# Altium schematic symbol library Discrete_Resistor.SchLib: 154 symbols
Pins are listed as number, name and electrical type; pins without a type are passive.

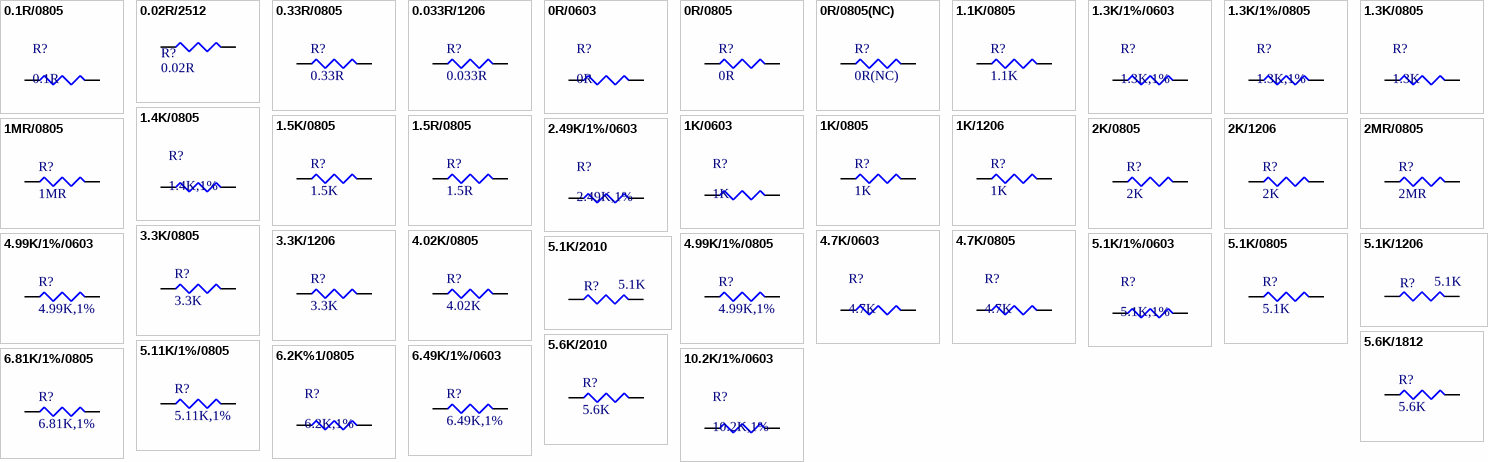
[diagram p0: symbols 0.1R/0805 to 10.2K/1%/0603]

## 0.1R/0805
designator R?, comment 0.1R
普通电阻, 0.1R, 5%, 1/4w, 0805; Manufacturer: ROHM; Ordering NO.: 0.1R; Name: 普通电阻
footprint R0805 (Chip Resistor; Body 80x50mil (2.0 x 1.3 mm))
pins: 1, 2

## 0.02R/2512
designator R?, comment 0.02R
普通电阻, 0.02R, 5%,  1W, 2512; Manufacturer: RHOM; Name: 普通电阻; Ordering NO.: 0.02R
footprint R2512
pins: 1, 2

## 0.33R/0805
designator R?, comment 0.33R
普通电阻, 0.33R, 5%, 1/8W, 0805; Manufacturer: ROHM; Name: 普通电阻; Ordering NO.: 0.33R
footprint R0805 (Chip Resistor; Body 80x50mil (2.0 x 1.3 mm))
pins: 1, 2

## 0.033R/1206
designator R?, comment 0.033R
普通电阻, 0.033R, 5%, 1/4W, 1206; Manufacturer: ROHM; Name: 普通电阻; Ordering NO.: 0.033R
footprint R1206
pins: 1, 2

## 0R/0603
designator R?, comment 0R
普通电阻, 0R, 5%, 1/4w, 0603; Manufacturer: ROHM; Ordering NO.: 0R/0603; Name: 普通电阻
footprint R0603 (Chip Resistor, Body 60x30mil (1.6x0.8mm))
pins: 1, 2

## 0R/0805
designator R?, comment 0R
普通电阻, 0R, 5%, 1/8W, 0805; Manufacturer: ROHM; Name: 普通电阻; Ordering NO.: 0R
footprint R0805 (Chip Resistor; Body 80x50mil (2.0 x 1.3 mm))
pins: 1, 2

## 0R/0805(NC)
designator R?, comment 0R(NC)
普通电阻, 0R, 5%, 1/8W, 0805; Manufacturer: ROHM; Name: 普通电阻; Ordering NO.: 0R(NC)
footprint R0805 (Chip Resistor; Body 80x50mil (2.0 x 1.3 mm))
pins: 1, 2

## 1.1K/0805
designator R?, comment 1.1K
普通电阻, 1.1K, 5%, 1/8W, 0805; Manufacturer: ROHM; Name: 普通电阻; Ordering NO.: 1.1K
footprint R0805 (Chip Resistor; Body 80x50mil (2.0 x 1.3 mm))
pins: 1, 2

## 1.3K/1%/0603
designator R?, comment 1.3K,1%
高精度电阻, 1.3K, 1%, 1/4w, 0603; Manufacturer: ROHM; Ordering NO.: 1.3K,1%; Name: 高精度电阻
footprint R0603 (Chip Resistor, Body 60x30mil (1.6x0.8mm))
pins: 1, 2

## 1.3K/1%/0805
designator R?, comment 1.3K,1%
高精度电阻, 1.3K, 1%, 1/4w, 0805; Manufacturer: ROHM; Ordering NO.: 1.3K,1%; Name: 高精度电阻
footprint R0805 (Chip Resistor; Body 80x50mil (2.0 x 1.3 mm))
pins: 1, 2

## 1.3K/0805
designator R?, comment 1.3K
普通电阻, 1.3K, 5%, 1/4w, 0805; Manufacturer: ROHM; Ordering NO.: 1.3K; Name: 普通电阻
footprint R0805 (Chip Resistor; Body 80x50mil (2.0 x 1.3 mm))
pins: 1, 2

## 1.4K/0805
designator R?, comment 1.4K,1%
高精度电阻, 1.4K, 1%, 1/4w, 0805; Manufacturer: ROHM; 物料参考价格: 0.01; 物料型号说明: 贴片电阻0805,1.4K%1/0805/1_4w; 物料替代型号: 村田; Ordering NO.: 1.4K,1%; Name: 高精度电阻
footprint R0805 (Chip Resistor; Body 80x50mil (2.0 x 1.3 mm))
pins: 1, 2

## 1.5K/0805
designator R?, comment 1.5K
普通电阻, 1.5K,5%, 1/8W, 0805; Manufacturer: ROHM; Name: 普通电阻; Ordering NO.: 1.5K
footprint R0805 (Chip Resistor; Body 80x50mil (2.0 x 1.3 mm))
pins: 1, 2

## 1.5R/0805
designator R?, comment 1.5R
普通电阻, 1.5R, 5%, 1/8W, 0805; Manufacturer: ROHM; Name: 普通电阻; Ordering NO.: 1.5R
footprint R0805 (Chip Resistor; Body 2.0 x 1.3 mm (LxW typ))
pins: 1, 2

## 1K/0603
designator R?, comment 1K
普通电阻, 1K, 5%, 1/4w, 0603; Manufacturer: ROHM; Ordering NO.: 1K; Name: 普通电阻
footprint R0603 (Chip Resistor, Body 60x30mil (1.6x0.8mm))
pins: 1, 2

## 1K/0805
designator R?, comment 1K
普通电阻, 1K, 5%, 1/8W, 0805; Manufacturer: ROHM; Name: 普通电阻; Ordering NO.: 1K
footprint R0805 (Chip Resistor; Body 80x50mil (2.0 x 1.3 mm))
pins: 1, 2

## 1K/1206
designator R?, comment 1K
普通电阻, 1K, 5%, 1/8W, 1206; Manufacturer: ROHM; Name: 普通电阻; Ordering NO.: 1K
footprint R1206 (Chip Resistor; Body 120x60mil (3.2 x 1.6 mm ))
pins: 1, 2

## 1MR/0805
designator R?, comment 1MR
普通电阻, 1MR, 5%, 1/8W, 0805; Manufacturer: ROHM; Name: 普通电阻; Ordering NO.: 1MR
footprint R0805 (Chip Resistor; Body 80x50mil (2.0 x 1.3 mm))
pins: 1, 2

## 2.49K/1%/0603
designator R?, comment 2.49K,1%
高精度电阻, 2.49K, 1%, 1/4w, 0603; Manufacturer: ROHM; 物料参考价格: 0.03; 物料型号说明: 贴片电阻0603,2.49K%1/0603/1_4w; 物料替代型号: 村田; Ordering NO.: 2.49K,1%; Name: 高精度电阻
footprint R0603 (Chip Resistor, Body 60x30mil (1.6x0.8mm))
pins: 1, 2

## 2K/0805
designator R?, comment 2K
普通电阻, 2K, 5%, 1/8W, 0805; Manufacturer: ROHM; Name: 普通电阻; Ordering NO.: 2K
footprint R0805 (Chip Resistor; Body 80x50mil (2.0 x 1.3 mm))
pins: 1, 2

## 2K/1206
designator R?, comment 2K
普通电阻, 2K, 5%, 1/4W, 1206; Manufacturer: ROHM; Name: 普通电阻; Ordering NO.: 2K
footprint R1206 (Chip Resistor; Body 120x60mil (3.2 x 1.6 mm ))
pins: 1, 2

## 2MR/0805
designator R?, comment 2MR
普通电阻, 2MR, 5%, 1/8W, 0805; Manufacturer: ROHM; Name: 普通电阻; Ordering NO.: 2MR
footprint R0805 (Chip Resistor; Body 80x50mil (2.0 x 1.3 mm))
pins: 1, 2

## 3.3K/0805
designator R?, comment 3.3K
普通电阻, 3.3K, 5%, 1/8W, 0805; Manufacturer: ROHM; Name: 普通电阻; Ordering NO.: 3.3K
footprint R0805 (Chip Resistor; Body 80x50mil (2.0 x 1.3 mm))
pins: 1, 2

## 3.3K/1206
designator R?, comment 3.3K
普通电阻, 3.3K, 5%, 1/8W, 1206; Manufacturer: ROHM; Name: 普通电阻; Ordering NO.: 3.3K
footprint R1206 (Chip Resistor; Body 120x60mil (3.2 x 1.6 mm ))
pins: 1, 2

## 4.02K/0805
designator R?, comment 4.02K
普通电阻, 4.02K, 5%, 1/8W, 0805; Manufacturer: ROHM; Name: 普通电阻; Ordering NO.: 4.02K
footprint R0805 (Chip Resistor; Body 80x50mil (2.0 x 1.3 mm))
pins: 1, 2

## 4.7K/0603
designator R?, comment 4.7K
普通电阻, 4.7K, 5%, 1/4w, 0603; Manufacturer: ROHM; 物料参考价格: 0.01; 物料型号说明: 贴片电阻0603,4.7K%5/1_4w; 物料替代型号: 村田; Ordering NO.: 4.7K; Name: 普通电阻
footprint R0603 (Chip Resistor, Body 60x30mil (1.6x0.8mm))
pins: 1, 2

## 4.7K/0805
designator R?, comment 4.7K
普通电阻, 4.7K, 5%, 1/4w, 0805; Manufacturer: ROHM; 物料参考价格: 0.01; 物料型号说明: 贴片电阻0805,4.7K%5/1_4w; 物料替代型号: 村田; Ordering NO.: 4.7K; Name: 普通电阻
footprint R0805 (Chip Resistor; Body 80x50mil (2.0 x 1.3 mm))
pins: 1, 2

## 4.99K/1%/0603
designator R?, comment 4.99K,1%
高精度电阻, 4.99K, 1%, 1/8W, 0603; Manufacturer: ROHM; Name: 高精度电阻; Ordering NO.: 4.99K,1%
footprint R0603 (Chip Resistor, Body 60x30mil (1.6x0.8mm))
pins: 1, 2

## 4.99K/1%/0805
designator R?, comment 4.99K,1%
高精度电阻, 4.99K, 1%, 1/8W, 0805; Manufacturer: ROHM; Name: 高精度电阻; Ordering NO.: 4.99K,1%
footprint R0805 (Chip Resistor; Body 2.0 x 1.3 mm (LxW typ))
pins: 1, 2

## 5.1K/1%/0603
designator R?, comment 5.1K,1%
高精度电阻, 5.1K, 1%, 1/4w, 0603; Manufacturer: ROHM; Ordering NO.: 5.1K,1%; Name: 高精度电阻
footprint R0603 (Chip Resistor, Body 60x30mil (1.6x0.8mm))
pins: 1, 2

## 5.1K/0805
designator R?, comment 5.1K
普通电阻, 5.1K, 5%, 1/8W, 0805; Manufacturer: ROHM; Name: 普通电阻; Ordering NO.: 5.1K
footprint R0805 (Chip Resistor; Body 2.0 x 1.3 mm (LxW typ))
pins: 1, 2

## 5.1K/1206
designator R?, comment 5.1K
普通电阻, 5.1K, 5%, 1/4W, 1206; Manufacturer: ROHM; Name: 普通电阻; Ordering NO.: 5.1K
footprint R1206 (Chip Resistor; Body 3.2 x 1.6 mm (LxW typ))
pins: 1, 2

## 5.1K/2010
designator R?, comment 5.1K
普通电阻, 5.1K, 5%, 3/4W, 2010; Manufacturer: ROHM; Name: 普通电阻; Ordering NO.: 5.1K
footprint R2010 (Chip Resistor, Body 200x100mil (5.0x2.5mm))
pins: 1, 2

## 5.6K/1812
designator R?, comment 5.6K
普通电阻, 5.6K, 5%, 1/2W, 1812; Manufacturer: ROHM; Name: 普通电阻; Ordering NO.: 5.6K
footprint R1812 (Chip Resistor, Body 180x120mil (4.5x3.2mm))
pins: 1, 2

## 5.6K/2010
designator R?, comment 5.6K
普通电阻, 5.6K, 5%, 1/2W, 2010; Manufacturer: ROHM; Name: 普通电阻; Ordering NO.: 5.6K
footprint R2010 (Chip Resistor, Body 5.0x2.5mm,)
pins: 1, 2

## 5.11K/1%/0805
designator R?, comment 5.11K,1%
高精度电阻, 5.11K, 1%, 1/8W, 0805; Manufacturer: ROHM; Name: 高精度电阻; Ordering NO.: 5.11K,1%
footprint R0805 (Chip Resistor; Body 80x50mil (2.0 x 1.3 mm))
pins: 1, 2

## 6.2K%1/0805
designator R?, comment 6.2K,1%
高精度电阻, 6.2K, 1%, 1/4w, 0805; Manufacturer: ROHM; 物料参考价格: 0.03; 物料型号说明: 贴片电阻0805,6.2K%1/0805/1_4w; 物料替代型号: 村田; Ordering NO.: 6.2K,1%; Name: 高精度电阻
footprint R0805 (Chip Resistor; Body 80x50mil (2.0 x 1.3 mm))
pins: 1, 2

## 6.49K/1%/0603
designator R?, comment 6.49K,1%
高精度电阻, 6.49K,1%, 1/8W, 0603; Manufacturer: ROHM; Name: 高精度电阻; Ordering NO.: 6.49K,1%
footprint R0603 (Chip Resistor, Body 60x30mil (1.6x0.8mm))
pins: 1, 2

## 6.81K/1%/0805
designator R?, comment 6.81K,1%
高精度电阻, 6.81K, 1%, 1/8W, 0805; Manufacturer: ROHM; Name: 高精度电阻; Ordering NO.: 6.81K,1%
footprint R0805 (Chip Resistor; Body 80x50mil (2.0 x 1.3 mm))
pins: 1, 2

## 10.2K/1%/0603
designator R?, comment 10.2K,1%
高精度电阻, 10.2K,1%, 1/4w, 0603; Manufacturer: ROHM; 物料参考价格: 0.03; 物料型号说明: 贴片电阻0603,10.2K%1/0603/1_4w; 物料替代型号: 村田; Ordering NO.: 10.2K,1%; Name: 高精度电阻
footprint R0603 (Chip Resistor, Body 60x30mil (1.6x0.8mm))
pins: 1, 2

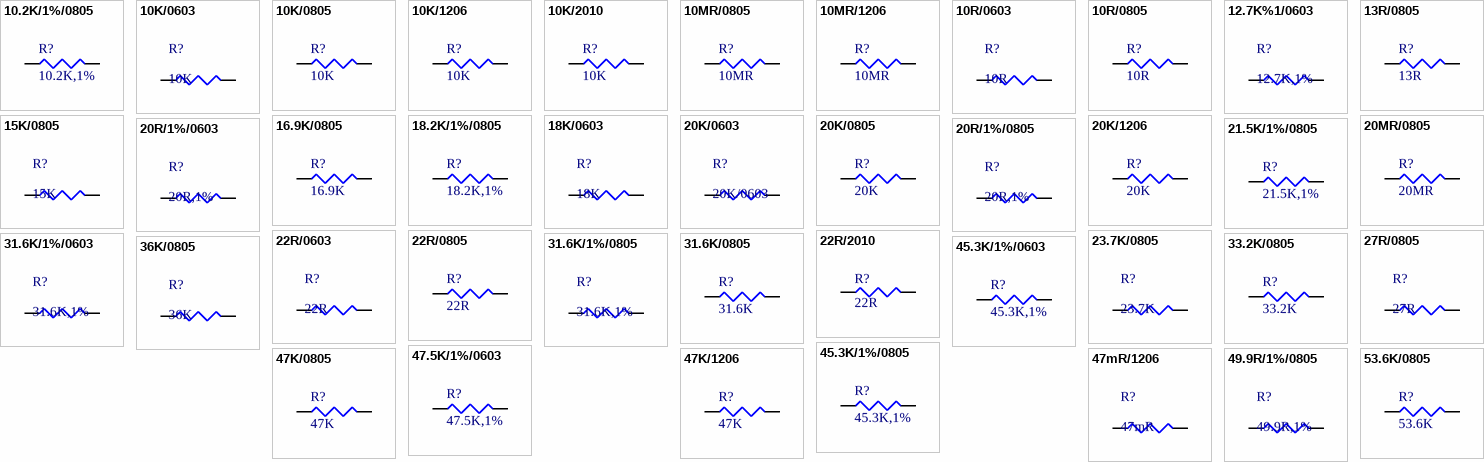
[diagram p1: symbols 10.2K/1%/0805 to 53.6K/0805]

## 10.2K/1%/0805
designator R?, comment 10.2K,1%
高精度电阻,10.2K, 1%, 1/8W, 0805; Manufacturer: ROHM; Name: 高精度电阻; Ordering NO.: 10.2K,1%
footprint R0805 (Chip Resistor; Body 80x50mil (2.0 x 1.3 mm))
pins: 1, 2

## 10K/0603
designator R?, comment 10K
普通电阻, 10K, 5%, 1/4w, 0603; Manufacturer: ROHM; 物料参考价格: 0.01; 物料型号说明: 贴片电阻0603,10K%5/1_4w; 物料替代型号: 村田; Ordering NO.: 10K; Name: 普通电阻
footprint R0603 (Chip Resistor, Body 60x30mil (1.6x0.8mm))
pins: 1, 2

## 10K/0805
designator R?, comment 10K
普通电阻, 10K, 5%, 1/8W, 0805; Manufacturer: ROHM; Name: 普通电阻; Ordering NO.: 10K
footprint R0805 (Chip Resistor; Body 80x50mil (2.0 x 1.3 mm))
pins: 1, 2

## 10K/1206
designator R?, comment 10K
普通电阻, 10K, 5%, 1/4W, 1206; Manufacturer: ROHM; Name: 普通电阻; Ordering NO.: 10K
footprint R1206
pins: 1, 2

## 10K/2010
designator R?, comment 10K
普通电阻, 10K, 5%, 3/4W, 2010; Manufacturer: ROHM; Name: 普通电阻; Ordering NO.: 10K
footprint R2010 (Chip Resistor, Body 200x100mil (5.0x2.5mm))
pins: 1, 2

## 10MR/0805
designator R?, comment 10MR
普通电阻, 10MR, 5%, 1/8W, 0805; Manufacturer: ROHM; Name: 普通电阻; Ordering NO.: 10MR
footprint R0805 (Chip Resistor; Body 80x50mil (2.0 x 1.3 mm))
pins: 1, 2

## 10MR/1206
designator R?, comment 10MR
普通电阻, 10MR, 5%, 1/4W, 1206; Manufacturer: ROHM; Name: 普通电阻; Ordering NO.: 10MR
footprint R1206 (Chip Resistor; Body 120x60mil (3.2 x 1.6 mm ))
pins: 1, 2

## 10R/0603
designator R?, comment 10R
普通电阻, 10R, 5%, 1/4w, 0603; Manufacturer: ROHM; 物料参考价格: 0.01; 物料型号说明: 贴片电阻0603,10R%5/1_4w; 物料替代型号: 村田; Ordering NO.: 10R; Name: 普通电阻
footprint R0603 (Chip Resistor, Body 60x30mil (1.6x0.8mm))
pins: 1, 2

## 10R/0805
designator R?, comment 10R
普通电阻, 10R, 5%, 1/8W, 0805; Manufacturer: ROHM; Name: 普通电阻; Ordering NO.: 10R
footprint R0805 (Chip Resistor; Body 80x50mil (2.0 x 1.3 mm))
pins: 1, 2

## 12.7K%1/0603
designator R?, comment 12.7K,1%
高精度电阻, 12.7K, 1%, 1/4w, 0603; Manufacturer: ROHM; 物料参考价格: 0.03; 物料型号说明: 贴片电阻0603,12.7K%1/0603/1_4w; 物料替代型号: 村田; Ordering NO.: 12.7K,1%; Name: 高精度电阻
footprint R0603 (Chip Resistor, Body 60x30mil (1.6x0.8mm))
pins: 1, 2

## 13R/0805
designator R?, comment 13R
普通电阻, 13R, 5%, 1/8W, 0805; Manufacturer: ROHM; Name: 普通电阻; Ordering NO.: 13R
footprint R0805 (Chip Resistor; Body 80x50mil (2.0 x 1.3 mm))
pins: 1, 2

## 15K/0805
designator R?, comment 15K
普通电阻, 15K, 5%, 1/4w, 0805; Manufacturer: ROHM; 物料参考价格: 0.01; 物料型号说明: 贴片电阻0805,15K%5/1_4w; 物料替代型号: 村田; Ordering NO.: 15K; Name: 普通电阻
footprint R0805 (Chip Resistor; Body 80x50mil (2.0 x 1.3 mm))
pins: 1, 2

## 16.9K/0805
designator R?, comment 16.9K
普通电阻, 16.9K, 5%, 1/8W, 0805; Manufacturer: ROHM; Name: 普通电阻; Ordering NO.: 16.9K
footprint R0805 (Chip Resistor; Body 80x50mil (2.0 x 1.3 mm))
pins: 1, 2

## 18.2K/1%/0805
designator R?, comment 18.2K,1%
高精度电阻, 18.2K, 1%, 1/8W, 0805; Manufacturer: ROHM; Name: 高精度电阻; Ordering NO.: 18.2K,1%
footprint R0805 (Chip Resistor; Body 80x50mil (2.0 x 1.3 mm))
pins: 1, 2

## 18K/0603
designator R?, comment 18K
普通电阻,18K, 5%, 1/4w, 0603; Manufacturer: ROHM; Ordering NO.: 18K; Name: 普通电阻
footprint R0603 (Chip Resistor, Body 60x30mil (1.6x0.8mm))
pins: 1, 2

## 20K/0603
designator R?
普通电阻, 20K, 5%, 1/4w, 0603; Manufacturer: ROHM; 物料参考价格: 0.01; 物料型号说明: 贴片电阻0603,20K%5/1_4w; 物料替代型号: 村田; Ordering NO.: 20K; Name: 普通电阻
footprint R0603 (Chip Resistor, Body 60x30mil (1.6x0.8mm))
pins: 1, 2

## 20K/0805
designator R?, comment 20K
普通电阻, 20K, 5%, 1/8W, 0805; Manufacturer: ROHM; Name: 普通电阻; Ordering NO.: 20K
footprint R0805 (Chip Resistor; Body 80x50mil (2.0 x 1.3 mm))
pins: 1, 2

## 20K/1206
designator R?, comment 20K
普通电阻, 20K, 5%, 1/8W, 1206; Manufacturer: ROHM; Name: 普通电阻; Ordering NO.: 20K
footprint R1206 (Chip Resistor; Body 120x60mil (3.2 x 1.6 mm ))
pins: 1, 2

## 20MR/0805
designator R?, comment 20MR
普通电阻, 20MR, 5%, 1/8W, 0805; Manufacturer: ROHM; Name: 普通电阻; Ordering NO.: 20MR
footprint R0805
pins: 1, 2

## 20R/1%/0603
designator R?, comment 20R,1%
高精度电阻, 20R, 1%, 1/4w, 0603; Manufacturer: ROHM; 物料参考价格: 0.03; 物料型号说明: 贴片电阻0603,20R%1/0603/1_4w; 物料替代型号: 村田; Ordering NO.: 20R,1%; Name: 高精度电阻
footprint R0603 (Chip Resistor, Body 60x30mil (1.6x0.8mm))
pins: 1, 2

## 20R/1%/0805
designator R?, comment 20R,1%
高精度电阻, 20R, 1%, 1/4w, 0805; Manufacturer: ROHM; 物料参考价格: 0.03; 物料型号说明: 贴片电阻0805,20R%1/0805/1_4w; 物料替代型号: 村田; Ordering NO.: 20R,1%; Name: 高精度电阻
footprint R0805 (Chip Resistor; Body 80x50mil (2.0 x 1.3 mm))
pins: 1, 2

## 21.5K/1%/0805
designator R?, comment 21.5K,1%
高精度电阻,21.5K, 1%, 1/8W, 0805; Manufacturer: ROHM; Name: 高精度电阻; Ordering NO.: 21.5K,1%
footprint R0805 (Chip Resistor; Body 80x50mil (2.0 x 1.3 mm))
pins: 1, 2

## 22R/0603
designator R?, comment 22R
普通电阻, 22R, 5%, 1/4w, 0603; Manufacturer: ROHM; 物料参考价格: 0.01; 物料型号说明: 贴片电阻0603,22R%5/1_4w; 物料替代型号: 村田; Ordering NO.: 22R; Name: 普通电阻
footprint R0603 (Chip Resistor, Body 60x30mil (1.6x0.8mm))
pins: 1, 2

## 22R/0805
designator R?, comment 22R
普通电阻, 22R, 5%, 1/8W, 0805; Manufacturer: ROHM; Name: 普通电阻; Ordering NO.: 22R
footprint R0805 (Chip Resistor; Body 80x50mil (2.0 x 1.3 mm))
pins: 1, 2

## 22R/2010
designator R?, comment 22R
普通电阻, 22R, 5%, 1/2w, 2010; Manufacturer: ROHM; Ordering NO.: 22R; Name: 普通电阻
footprint R2010 (Chip Resistor, Body 5.0x2.5mm,)
pins: 1, 2

## 23.7K/0805
designator R?, comment 23.7K
普通电阻, 23.7K, 5%, 1/4w, 0805; Manufacturer: ROHM; Ordering NO.: 23.7K; Name: 普通电阻
footprint R0805 (Chip Resistor; Body 80x50mil (2.0 x 1.3 mm))
pins: 1, 2

## 27R/0805
designator R?, comment 27R
普通电阻, 27R, 5%, 1/4w, 0805; Manufacturer: ROHM; 物料参考价格: 0.01; 物料型号说明: 贴片电阻0805,27R%5/1_4w; 物料替代型号: 村田; Ordering NO.: 27R; Name: 普通电阻
footprint R0805 (Chip Resistor; Body 80x50mil (2.0 x 1.3 mm))
pins: 1, 2

## 31.6K/1%/0603
designator R?, comment 31.6K,1%
高精度电阻, 31.6K, 1%, 1/4w, 0603; Manufacturer: ROHM; 物料参考价格: 0.03; 物料型号说明: 贴片电阻0603,31.6K%1/0603/1_4w; 物料替代型号: 村田; Ordering NO.: 31.6K,1%; Name: 高精度电阻
footprint R0603 (Chip Resistor, Body 60x30mil (1.6x0.8mm))
pins: 1, 2

## 31.6K/1%/0805
designator R?, comment 31.6K,1%
高精度电阻, 31.6K, 1%, 1/4w, 0805; Manufacturer: ROHM; 物料参考价格: 0.03; 物料型号说明: 贴片电阻0805,31.6K%1/0805/1_4w; 物料替代型号: 村田; Ordering NO.: 31.6K,1%; Name: 高精度电阻
footprint R0805 (Chip Resistor; Body 80x50mil (2.0 x 1.3 mm))
pins: 1, 2

## 31.6K/0805
designator R?, comment 31.6K
普通电阻,31.6K, 5%, 1/8W, 0805; Manufacturer: ROHM; Name: 普通电阻; Ordering NO.: 31.6K
footprint R0805 (Chip Resistor; Body 80x50mil (2.0 x 1.3 mm))
pins: 1, 2

## 33.2K/0805
designator R?, comment 33.2K
普通电阻, 33.2K, 5%, 1/8W, 0805; Manufacturer: ROHM; Name: 普通电阻; Ordering NO.: 33.2K
footprint R0805 (Chip Resistor; Body 80x50mil (2.0 x 1.3 mm))
pins: 1, 2

## 36K/0805
designator R?, comment 36K
普通电阻, 36K, 5%, 1/4w, 0805; Manufacturer: ROHM; 物料参考价格: 0.01; 物料型号说明: 贴片电阻0805,36K%5/1_4w; 物料替代型号: 村田; Ordering NO.: 36K; Name: 普通电阻
footprint R0805 (Chip Resistor; Body 80x50mil (2.0 x 1.3 mm))
pins: 1, 2

## 45.3K/1%/0603
designator R?, comment 45.3K,1%
高精度电阻,45.3K, 1%, 1/8W, 0603; Manufacturer: ROHM; Name: 高精度电阻; Ordering NO.: 45.3K,1%
footprint R0603 (Chip Resistor, Body 60x30mil (1.6x0.8mm))
pins: 1, 2

## 45.3K/1%/0805
designator R?, comment 45.3K,1%
高精度电阻,45.3K, 1%, 1/8W, 0805; Manufacturer: ROHM; Name: 高精度电阻; Ordering NO.: 45.3K,1%
footprint R0805 (Chip Resistor; Body 80x50mil (2.0 x 1.3 mm))
pins: 1, 2

## 47.5K/1%/0603
designator R?, comment 47.5K,1%
高精度电阻,47.5K, 1%, 1/8W, 0603; Manufacturer: ROHM; Name: 高精度电阻; Ordering NO.: 47.5K,1%
footprint R0603 (Chip Resistor, Body 60x30mil (1.6x0.8mm))
pins: 1, 2

## 47K/0805
designator R?, comment 47K
普通电阻, 47K, 5%, 1/8W, 0805; Manufacturer: ROHM; Name: 普通电阻; Ordering NO.: 47K
footprint R0805 (Chip Resistor; Body 80x50mil (2.0 x 1.3 mm))
pins: 1, 2

## 47K/1206
designator R?, comment 47K
普通电阻, 47K, 5%, 1/8W, 1206; Manufacturer: ROHM; Name: 普通电阻; Ordering NO.: 47K
footprint R1206 (Chip Resistor; Body 120x60mil (3.2 x 1.6 mm ))
pins: 1, 2

## 47mR/1206
designator R?, comment 47mR
普通电阻, 47mR, 10%, 1/2w, 1206; Manufacturer: ROHM; 物料参考价格: 0.25; Ordering NO.: LR32-R047K-U; 物料型号说明: 贴片电阻1206,47mR%10/1_2w; 物料替代型号: 村田; Name: 普通电阻
footprint R1206 (Chip Resistor; Body 120x60mil (3.2 x 1.6 mm ))
pins: 1, 2

## 49.9R/1%/0805
designator R?, comment 49.9R,1%
高精度电阻, 49.9R, 1%, 1/4w, 0805; Manufacturer: ROHM; 物料参考价格: 0.01; 物料型号说明: 贴片电阻0805,49.9R%1/0805/1_4w; 物料替代型号: 村田; Ordering NO.: 49.9R,1%; Name: 高精度电阻
footprint R0805 (Chip Resistor; Body 80x50mil (2.0 x 1.3 mm))
pins: 1, 2

## 53.6K/0805
designator R?, comment 53.6K
普通电阻, 53.6K, 5%, 1/8W, 0805; Manufacturer: ROHM; Name: 普通电阻; Ordering NO.: 53.6K
footprint R0805 (Chip Resistor; Body 80x50mil (2.0 x 1.3 mm))
pins: 1, 2

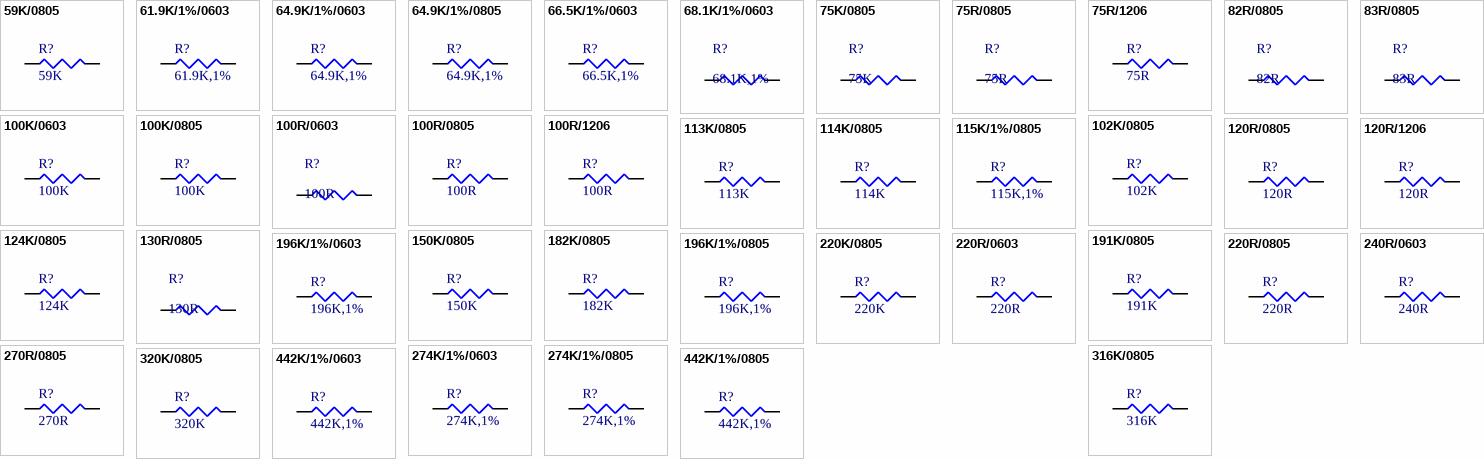
[diagram p2: symbols 59K/0805 to 442K/1%/0805]

## 59K/0805
designator R?, comment 59K
普通电阻, 59K, 5%, 1/8W, 0805; Manufacturer: ROHM; Name: 普通电阻; Ordering NO.: 59K
footprint R0805 (Chip Resistor; Body 80x50mil (2.0 x 1.3 mm))
pins: 1, 2

## 61.9K/1%/0603
designator R?, comment 61.9K,1%
高精度电阻,61.9K, 1%, 1/8W, 0603; Manufacturer: ROHM; Name: 高精度电阻; Ordering NO.: 61.9K,1%
footprint R0603 (Chip Resistor, Body 60x30mil (1.6x0.8mm))
pins: 1, 2

## 64.9K/1%/0603
designator R?, comment 64.9K,1%
高精度电阻,64.9K, 1%, 1/8W, 0603; Manufacturer: ROHM; Name: 高精度电阻; Ordering NO.: 64.9K,1%
footprint R0603 (Chip Resistor, Body 60x30mil (1.6x0.8mm))
pins: 1, 2

## 64.9K/1%/0805
designator R?, comment 64.9K,1%
高精度电阻,64.9K, 1%, 1/8W, 0805; Manufacturer: ROHM; Name: 高精度电阻; Ordering NO.: 64.9K,1%
footprint R0805 (Chip Resistor; Body 80x50mil (2.0 x 1.3 mm))
pins: 1, 2

## 66.5K/1%/0603
designator R?, comment 66.5K,1%
高精度电阻, 66.5K,1%, 1/8W, 0603; Manufacturer: ROHM; Name: 高精度电阻; Ordering NO.: 66.5K,1%
footprint R0603 (Chip Resistor, Body 60x30mil (1.6x0.8mm))
pins: 1, 2

## 68.1K/1%/0603
designator R?, comment 68.1K,1%
高精度电阻, 68.1K, 1%, 1/4w, 0603; Manufacturer: ROHM; Ordering NO.: 68.1K,1%; Name: 高精度电阻
footprint R0603 (Chip Resistor, Body 60x30mil (1.6x0.8mm))
pins: 1, 2

## 75K/0805
designator R?, comment 75K
普通电阻, 75K, 5%, 1/8w,0805; Manufacturer: ROHM; Ordering NO.: 75K; Name: 普通电阻
footprint R0805 (Chip Resistor; Body 80x50mil (2.0 x 1.3 mm))
pins: 1, 2

## 75R/0805
designator R?, comment 75R
普通电阻, 75R, 5%, 1/8w, 0805; Manufacturer: ROHM; 物料参考价格: 0.01; 物料型号说明: 贴片电阻0805,75R%5/1_4w; 物料替代型号: 村田; Ordering NO.: 75R; Name: 普通电阻
footprint R0805 (Chip Resistor; Body 80x50mil (2.0 x 1.3 mm))
pins: 1, 2

## 75R/1206
designator R?, comment 75R
普通电阻, 75R, 5%, 1/4W, 1206; Manufacturer: ROHM; Tips: 做终端电阻使用; Name: 普通电阻; Ordering NO.: 75R
footprint R1206
pins: 1, 2

## 82R/0805
designator R?, comment 82R
普通电阻, 82R, 5%, 1/4w, 0805; Manufacturer: ROHM; 物料参考价格: 0.01; 物料型号说明: 贴片电阻0805,82R%5/1_4w; 物料替代型号: 村田; Ordering NO.: 82R; Name: 普通电阻
footprint R0805 (Chip Resistor; Body 80x50mil (2.0 x 1.3 mm))
pins: 1, 2

## 83R/0805
designator R?, comment 83R
普通电阻, 83R, 5%, 1/4w, 0805; Manufacturer: ROHM; 物料参考价格: 0.01; 物料型号说明: 贴片电阻0805,83R%5/1_4w; 物料替代型号: 村田; Ordering NO.: 83R; Name: 普通电阻
footprint R0805 (Chip Resistor; Body 80x50mil (2.0 x 1.3 mm))
pins: 1, 2

## 100K/0603
designator R?, comment 100K
普通电阻, 100K, 5%, 1/8W, 0603; Manufacturer: ROHM; Name: 普通电阻; Ordering NO.: 100K
footprint R0603 (Chip Resistor, Body 60x30mil (1.6x0.8mm))
pins: 1, 2

## 100K/0805
designator R?, comment 100K
普通电阻, 100K, 5%, 1/8W, 0805; Manufacturer: ROHM; Name: 普通电阻; Ordering NO.: 100K
footprint R0805 (Chip Resistor; Body 80x50mil (2.0 x 1.3 mm))
pins: 1, 2

## 100R/0603
designator R?, comment 100R
普通电阻, 100R, 5%, 1/4W, 0603; Manufacturer: ROHM; 物料参考价格: 0.01; 物料型号说明: 贴片电阻0603,100R%5/1_4w; 物料替代型号: 村田; Ordering NO.: 100R; Name: 普通电阻
footprint R0603 (Chip Resistor, Body 60x30mil (1.6x0.8mm))
pins: 1, 2

## 100R/0805
designator R?, comment 100R
普通电阻, 100R, 5%, 1/8W, 0805; Manufacturer: ROHM; Name: 普通电阻; Ordering NO.: 100R
footprint R0805 (Chip Resistor; Body 80x50mil (2.0 x 1.3 mm))
pins: 1, 2

## 100R/1206
designator R?, comment 100R
普通电阻, 100R, 5%, 1/4W, 1206; Manufacturer: ROHM; Tips: 做终端电阻使用; Name: 普通电阻; Ordering NO.: 100R
footprint R1206
pins: 1, 2

## 102K/0805
designator R?, comment 102K
普通电阻, 102K, 5%, 1/8W, 0805; Manufacturer: ROHM; Name: 普通电阻; Ordering NO.: 102K
footprint R0805 (Chip Resistor; Body 80x50mil (2.0 x 1.3 mm))
pins: 1, 2

## 113K/0805
designator R?, comment 113K
普通电阻, 113K, 5%, 1/8W, 0805; Manufacturer: ROHM; Name: 普通电阻; Ordering NO.: 113K
footprint R0805 (Chip Resistor; Body 80x50mil (2.0 x 1.3 mm))
pins: 1, 2

## 114K/0805
designator R?, comment 114K
普通电阻, 114K, 5%, 1/8W, 0805; Manufacturer: ROHM; Name: 普通电阻; Ordering NO.: 114K
footprint R0805 (Chip Resistor; Body 80x50mil (2.0 x 1.3 mm))
pins: 1, 2

## 115K/1%/0805
designator R?, comment 115K,1%
高精度电阻, 115K, 1%, 1/8W, 0805; Manufacturer: ROHM; Name: 高精度电阻; Ordering NO.: 115K,1%
footprint R0805 (Chip Resistor; Body 80x50mil (2.0 x 1.3 mm))
pins: 1, 2

## 120R/0805
designator R?, comment 120R
普通电阻, 120R, 5%, 1/8W, 0805; Manufacturer: ROHM; Name: 普通电阻; Ordering NO.: 120R
footprint R0805 (Chip Resistor; Body 80x50mil (2.0 x 1.3 mm))
pins: 1, 2

## 120R/1206
designator R?, comment 120R
普通电阻, 120R, 5%, 1/4W, 1206; Manufacturer: ROHM; Tips: 做终端电阻使用; Name: 普通电阻; Ordering NO.: 120R
footprint R1206
pins: 1, 2

## 124K/0805
designator R?, comment 124K
普通电阻, 124K, 5%, 1/8W, 0805; Manufacturer: ROHM; Name: 普通电阻; Ordering NO.: 124K
footprint R0805 (Chip Resistor; Body 80x50mil (2.0 x 1.3 mm))
pins: 1, 2

## 130R/0805
designator R?, comment 130R
普通电阻, 130R, 5%, 1/4W, 0805; Manufacturer: ROHM; 物料参考价格: 0.01; 物料型号说明: 贴片电阻0805,130R%5/1_4w; 物料替代型号: 村田; Ordering NO.: 130R; Name: 普通电阻
footprint R0805 (Chip Resistor; Body 80x50mil (2.0 x 1.3 mm))
pins: 1, 2

## 150K/0805
designator R?, comment 150K
普通电阻, 150K, 5%, 1/8W, 0805; Manufacturer: ROHM; Name: 普通电阻; Ordering NO.: 150K
footprint R0805 (Chip Resistor; Body 80x50mil (2.0 x 1.3 mm))
pins: 1, 2

## 182K/0805
designator R?, comment 182K
普通电阻, 182K, 5%, 1/8W, 0805; Manufacturer: ROHM; Name: 普通电阻; Ordering NO.: 182K
footprint R0805 (Chip Resistor; Body 80x50mil (2.0 x 1.3 mm))
pins: 1, 2

## 191K/0805
designator R?, comment 191K
普通电阻, 191K, 5%, 1/8W, 0805; Manufacturer: ROHM; Name: 普通电阻; Ordering NO.: 191K
footprint R0805 (Chip Resistor; Body 80x50mil (2.0 x 1.3 mm))
pins: 1, 2

## 196K/1%/0603
designator R?, comment 196K,1%
高精度电阻,196K, 1%, 1/8W, 0603; Manufacturer: ROHM; Name: 高精度电阻; Ordering NO.: 196K,1%
footprint R0603 (Chip Resistor, Body 60x30mil (1.6x0.8mm))
pins: 1, 2

## 196K/1%/0805
designator R?, comment 196K,1%
高精度电阻,196K, 1%, 1/8W, 0805; Manufacturer: ROHM; Name: 高精度电阻; Ordering NO.: 196K,1%
footprint R0805 (Chip Resistor; Body 80x50mil (2.0 x 1.3 mm))
pins: 1, 2

## 220K/0805
designator R?, comment 220K
普通电阻, 220K, 5%, 1/8W, 0805; Manufacturer: ROHM; Name: 普通电阻; Ordering NO.: 220K
footprint R0805 (Chip Resistor; Body 2.0 x 1.3 mm (LxW typ))
pins: 1, 2

## 220R/0603
designator R?, comment 220R
普通电阻, 220R, 5% ,0.1W , ±100ppm/°C,0603; Manufacturer: ROHM; Name: 普通电阻; Ordering NO.: 220R
footprint R0603 (Chip Resistor, Body 60x30mil (1.6x0.8mm))
pins: 1, 2

## 220R/0805
designator R?, comment 220R
普通电阻, 220R, 5% ,0.1W , ±100ppm/°C,0805; Manufacturer: ROHM; Name: 普通电阻; Ordering NO.: 220R
footprint R0805 (Chip Resistor; Body 2.0 x 1.3 mm (LxW typ))
pins: 1, 2

## 240R/0603
designator R?, comment 240R
普通电阻, 240R, 5%, 1/8W, 0603; Manufacturer: ROHM; Name: 普通电阻; Ordering NO.: 240R
footprint R0603 (Chip Resistor, Body 60x30mil (1.6x0.8mm))
pins: 1, 2

## 270R/0805
designator R?, comment 270R
普通电阻, 270R, 5%, 1/8W, 0805; Manufacturer: ROHM; Name: 普通电阻; Ordering NO.: 270R
footprint R0805 (Chip Resistor; Body 80x50mil (2.0 x 1.3 mm))
pins: 1, 2

## 274K/1%/0603
designator R?, comment 274K,1%
高精度电阻,274K, 1%, 1/8W, 0603; Manufacturer: ROHM; Name: 高精度电阻; Ordering NO.: 274K,1%
footprint R0603 (Chip Resistor, Body 60x30mil (1.6x0.8mm))
pins: 1, 2

## 274K/1%/0805
designator R?, comment 274K,1%
普通电阻,274K, 5%, 1/8W, 0805; Manufacturer: ROHM; Name: 普通电阻; Ordering NO.: 274K,1%
footprint R0805 (Chip Resistor; Body 80x50mil (2.0 x 1.3 mm))
pins: 1, 2

## 316K/0805
designator R?, comment 316K
普通电阻, 316K, 5%, 1/8W, 0805; Manufacturer: ROHM; Name: 普通电阻; Ordering NO.: 316K
footprint R0805 (Chip Resistor; Body 80x50mil (2.0 x 1.3 mm))
pins: 1, 2

## 320K/0805
designator R?, comment 320K
普通电阻, 320K, 5%, 1/8W, 0805; Manufacturer: ROHM; Name: 普通电阻; Ordering NO.: 320K
footprint R0805 (Chip Resistor; Body 80x50mil (2.0 x 1.3 mm))
pins: 1, 2

## 442K/1%/0603
designator R?, comment 442K,1%
高精度电阻,442K, 1%, 1/8W, 0603; Manufacturer: ROHM; Name: 高精度电阻; Ordering NO.: 442K,1%
footprint R0603 (Chip Resistor, Body 60x30mil (1.6x0.8mm))
pins: 1, 2

## 442K/1%/0805
designator R?, comment 442K,1%
高精度电阻,442K, 1%, 1/8W, 0805; Manufacturer: ROHM; Name: 高精度电阻; Ordering NO.: 442K,1%
footprint R0805 (Chip Resistor; Body 80x50mil (2.0 x 1.3 mm))
pins: 1, 2

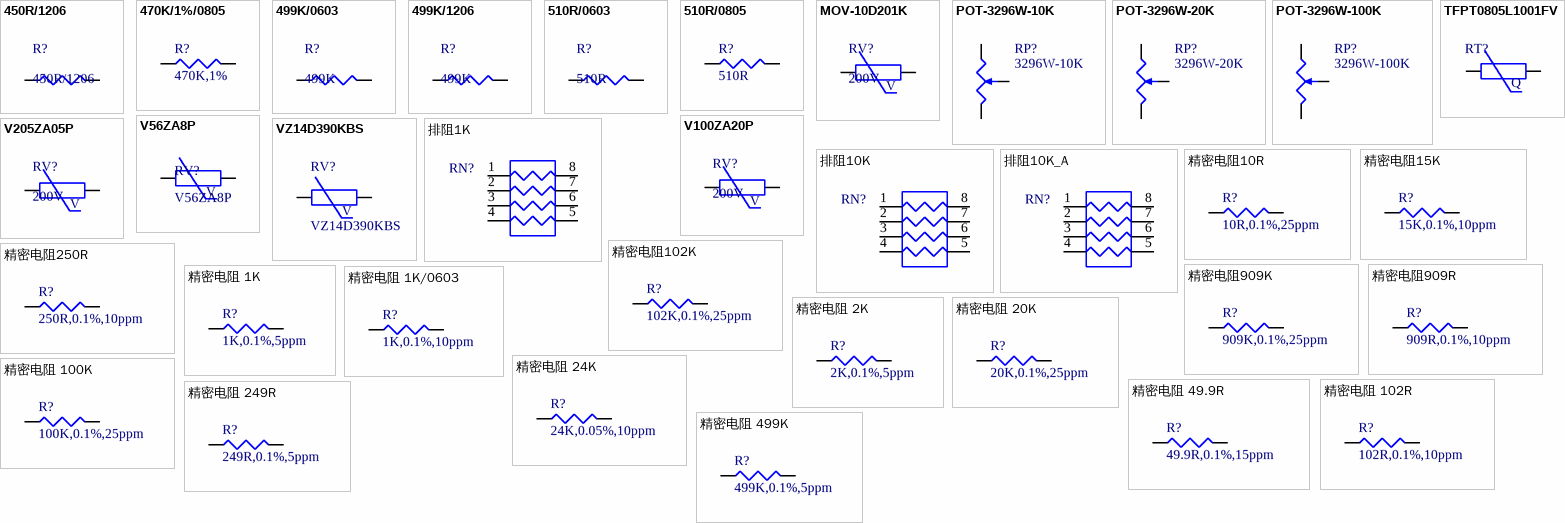
[diagram p3: symbols 450R/1206 to 精密电阻 499K]

## 450R/1206
designator R?
普通电阻, 450R, 10%, 1/2w, 1206; Manufacturer: ROHM; 物料参考价格: 0.25; 物料型号说明: 贴片电阻1206,47mR%10/1_2w; 物料替代型号: 村田; Ordering NO.: 450R; Name: 普通电阻
footprint R1206 (Chip Resistor; Body 120x60mil (3.2 x 1.6 mm ))
pins: 1, 2

## 470K/1%/0805
designator R?, comment 470K,1%
高精度电阻,470K, 1%, 1/8W, 0805; Manufacturer: ROHM; Name: 高精度电阻; Ordering NO.: 470K,1%
footprint R0805 (Chip Resistor; Body 80x50mil (2.0 x 1.3 mm))
pins: 1, 2

## 499K/0603
designator R?, comment 499K
普通电阻, 499K, 5%, 0.1w, ±100ppm/°C,0603; Manufacturer: ROHM; Ordering NO.: 499K; Name: 普通电阻
footprint R0603 (Chip Resistor, Body 60x30mil (1.6x0.8mm))
pins: 1, 2

## 499K/1206
designator R?, comment 499K
普通电阻, 499K, 5%, 0.1w, ±100ppm/°C,1206; Manufacturer: ROHM; Ordering NO.: 499K; Name: 普通电阻
footprint R1206 (Chip Resistor; Body 120x60mil (3.2 x 1.6 mm ))
pins: 1, 2

## 510R/0603
designator R?, comment 510R
普通电阻, 510R, 5%, 1/4w, 0603; Manufacturer: ROHM; 物料参考价格: 0.01; 物料型号说明: 贴片电阻0603,510R%5/1_4w; 物料替代型号: 村田; Ordering NO.: 510R; Name: 普通电阻
footprint R0603 (Chip Resistor, Body 60x30mil (1.6x0.8mm))
pins: 1, 2

## 510R/0805
designator R?, comment 510R
普通电阻, 510R, 5%, 1/8W, 0805; Manufacturer: ROHM; Name: 普通电阻; Ordering NO.: 510R
footprint R0805 (Chip Resistor; Body 80x50mil (2.0 x 1.3 mm))
pins: 1, 2

## MOV-10D201K
designator RV?, comment 200V
压敏电阻, 200V; Manufacturer: Bourns; 物料参考价格: 2; Ordering NO.: MOV-10D201K; 物料型号说明: 单线10mm200V; Name: 压敏电阻; 物料替代型号: n/a
footprint VSR2-295 (片式器件，直径12.5mm,高15.5mm)
pins: 1, 2
text: V

## POT-3296W-10K
designator RP?, comment 3296W-10K
电位器3296W-10K; Manufacturer: Risym; 物料参考价格: 8.5; 物料说明: 3296W电位器; 物料替代型号: 国产同类; Name: 10K电位器; Ordering NO.: 3296W-10K
footprint POT3/2.54 (3296W电位器间距100mil)
pins: 1, 2, 2
1 alternate drawing of the same symbol

## POT-3296W-20K
designator RP?, comment 3296W-20K
电位器3296W-20K; Manufacturer: Risym; 物料参考价格: 8.5; 物料说明: 3296W电位器; 物料替代型号: 国产同类; Name: 20K电位器; Ordering NO.: 3296W-20K
footprint POT3/2.54 (3296W电位器间距100mil)
pins: 1, 2, 2
1 alternate drawing of the same symbol

## POT-3296W-100K
designator RP?, comment 3296W-100K
电位器3296W-100K; Manufacturer: Risym; 物料参考价格: 8.5; 物料说明: 3296W电位器; 物料替代型号: 国产同类; Name: 100K电位器; Ordering NO.: 3296W-100K
footprint POT3/2.54 (3296W电位器间距100mil)
pins: 1, 2, 2
1 alternate drawing of the same symbol

## TFPT0805L1001FV
designator RT?, comment 1K,1%  (value not drawn)
热敏电阻,Linear PTC Thermistors, 1K, 1%, 1/8W, 0805; Manufacturer: VUSHAY; Ordering NO.: TFPT0805L1001FV; Name: 热敏电阻
footprint R0805 (Chip Resistor; Body 80x50mil (2.0 x 1.3 mm))
pins: 1, 2
text: Q

## V56ZA8P
designator RV?
压敏电阻 直插; Manufacturer: littlefuse; Name: 压敏电阻; Ordering NO.: V56ZA8P
footprint VSR2-7.5-2 (17*5mm)
pins: 1, 2
text: V

## V100ZA20P
designator RV?, comment 200V
压敏电阻, 100V; Manufacturer: Littlefuse; Ordering NO.: V100ZA20P; Tips: TUV认证器件; Name: 压敏电阻
footprint VSR2-7.5-2.5 (17*5mm)
pins: 1, 2
text: V

## V205ZA05P
designator RV?, comment 200V
压敏电阻, 200V; Manufacturer: Littlefuse; Ordering NO.: V205ZA05P; Tips: TUV认证器件; Name: 压敏电阻
footprint VSR2-5-2.5 (片式器件，直径7mm,高10mm,厚5.6mm)
pins: 1, 2
text: V

## VZ14D390KBS
designator RV?
压敏电阻 直插; Manufacturer: WORLD PRODUCTS; Name: 压敏电阻; Ordering NO.: VZ14D390KBS
footprint VSR2-7.5-2 (17*5mm)
pins: 1, 2
text: V

## 排阻1K
designator RN?, comment 1K  (value not drawn)
排阻,1K,0603; Manufacturer: ROHM; Name: 1K排阻(0603封装); Ordering NO.: 1K
footprint RN0603 (阻排0603x4)
pins: 1 R1, 2 R2, 3 R3, 4 R4, 5 R4, 6 R3, 7 R2, 8 R1

## 排阻10K
designator RN?, comment 10K  (value not drawn)
排阻,10K,0603; Manufacturer: ROHM; Name: 10K排阻(0603封装); Ordering NO.: MNR14ERAPJ103
footprint RN0603 (阻排0603x4)
pins: 1 R1, 2 R2, 3 R3, 4 R4, 5 R4, 6 R3, 7 R2, 8 R1

## 排阻10K_A
designator RN?, comment 10K  (value not drawn)
排阻,10K,0603; Manufacturer: AVX; Name: 10K排阻(0603封装); Ordering NO.: CRA3A-4E-10K
footprint RN0603 (阻排0603x4)
pins: 1 R1, 2 R2, 3 R3, 4 R4, 5 R4, 6 R3, 7 R2, 8 R1

## 精密电阻10R
designator R?, comment 10R,0.1%,25ppm
精密电阻, 10R,  ± 0.1%, 1/8W, 25ppm, 0805; Manufacturer: TE Connectivity; Ordering NO.: RP73PF2A10RBTDF; Name: 精密电阻
footprint R0805 (Chip Resistor; Body 2.0 x 1.3 mm (LxW typ))
pins: 1, 2

## 精密电阻15K
designator R?, comment 15K,0.1%,10ppm
精密电阻, 15K,  ± 0.1%,  1/8W, ± 5ppm/°C, 0805; Manufacturer: WELWYN; Ordering NO.: PCF-0805-13-15K-B-T1; Name: 精密电阻
footprint R0805
pins: 1, 2

## 精密电阻102K
designator R?, comment 102K,0.1%,25ppm
精密电阻, 102K,  ± 0.1%, 1/8W, 25ppm, 0805; Manufacturer: Panasonic; Ordering NO.: ERA6AEB1023V; Name: 精密电阻
footprint R0805 (Chip Resistor; Body 80x50mil (2.0 x 1.3 mm))
pins: 1, 2

## 精密电阻250R
designator R?, comment 250R,0.1%,10ppm
精密电阻, 250R,  ± 0.1%, 1/10W, 10ppm, 0603; Manufacturer: VISHAY; Ordering NO.: TNPW0603250R00BYEN; Name: 精密电阻
footprint R0603 (Chip Resistor, Body 60x30mil (1.6x0.8mm))
pins: 1, 2

## 精密电阻909K
designator R?, comment 909K,0.1%,25ppm
精密电阻, 909K,  ± 0.1%, 1/8W, 25ppm, 0805; Manufacturer: Panasonic; Ordering NO.: ERA6AEB9093V; Name: 精密电阻
footprint R0805 (Chip Resistor; Body 80x50mil (2.0 x 1.3 mm))
pins: 1, 2

## 精密电阻909R
designator R?, comment 909R,0.1%,10ppm
精密电阻, 909R,  ± 0.1%, 1/8W, 10ppm, 0805; Manufacturer: TE Connectivity; Ordering NO.: RN73C2A909RB; Name: 精密电阻
footprint R0805 (Chip Resistor; Body 80x50mil (2.0 x 1.3 mm))
pins: 1, 2

## 精密电阻 1K
designator R?, comment 1K,0.1%,5ppm
精密电阻, 1K,  ± 0.1%, 1/8W, 5ppm, 0805; Manufacturer: PANASONIC; Ordering NO.: ERA6AEB102V; Name: 精密电阻
footprint R0805 (Chip Resistor; Body 2.0 x 1.3 mm (LxW typ))
pins: 1, 2

## 精密电阻 1K/0603
designator R?, comment 1K,0.1%,10ppm
精密电阻, 1K,  ± 0.1%, 1/10W, 10ppm, 0603; Manufacturer: VISHAY; Ordering NO.: TNPW06031K00BYEN; Name: 精密电阻
footprint R0603 (Chip Resistor, Body 60x30mil (1.6x0.8mm))
pins: 1, 2

## 精密电阻 2K
designator R?, comment 2K,0.1%,5ppm
精密电阻, 2K, ± 0.1%, 1/8W, 5ppm, 0805; Manufacturer: WELWYN; Ordering NO.: PCF0805-13-24K-B-T1; Name: 精密电阻
footprint R0805 (Chip Resistor; Body 2.0 x 1.3 mm (LxW typ))
pins: 1, 2

## 精密电阻 20K
designator R?, comment 20K,0.1%,25ppm
精密电阻, 20K,  ± 0.1%, 1/8W, 25ppm, 0805; Manufacturer: Panasonic; Ordering NO.: ERA6AEB203; Name: 精密电阻
footprint R0805 (Chip Resistor; Body 2.0 x 1.3 mm (LxW typ))
pins: 1, 2

## 精密电阻 24K
designator R?, comment 24K,0.05%,10ppm
精密电阻, 24K,  ± 0.05%, 1/8W, 10ppm, 0805; Manufacturer: Panasonic; Ordering NO.: ERA6ARW243V; Tips: 给AO212模块通道使用，RS库存编号662-1369; Name: 精密电阻
footprint R0805 (Chip Resistor; Body 2.0 x 1.3 mm (LxW typ))
pins: 1, 2

## 精密电阻 49.9R
designator R?, comment 49.9R,0.1%,15ppm
精密电阻, 49.9R,  ± 0.1%, 0.1W, 15ppm, 0805; Manufacturer: TE Connectivity; Ordering NO.: RP73D2A49R9BTG; Name: 精密电阻
footprint R0805 (Chip Resistor; Body 2.0 x 1.3 mm (LxW typ))
pins: 1, 2

## 精密电阻 100K
designator R?, comment 100K,0.1%,25ppm
精密电阻, 100K,  ± 0.1%, 1/8W, 25ppm, 0805; Manufacturer: Panasonic; Ordering NO.: ERA6AEB104; Name: 精密电阻
footprint R0805 (Chip Resistor; Body 2.0 x 1.3 mm (LxW typ))
pins: 1, 2

## 精密电阻 102R
designator R?, comment 102R,0.1%,10ppm
精密电阻, 102R,  ± 0.1%, 1/8W, 10ppm, 0805; Manufacturer: TE Connectivity; Ordering NO.: RN73C2A102RB; Name: 精密电阻
footprint R0805 (Chip Resistor; Body 80x50mil (2.0 x 1.3 mm))
pins: 1, 2

## 精密电阻 249R
designator R?, comment 249R,0.1%,5ppm
精密电阻, 249R,  ± 0.1%, 1/8W, 5ppm, 0805; Manufacturer: TE CONNECTIVITY; Ordering NO.: RN73C2A249RBTDF; Name: 精密电阻
footprint R0805 (Chip Resistor; Body 2.0 x 1.3 mm (LxW typ))
pins: 1, 2

## 精密电阻 499K
designator R?, comment 499K,0.1%,5ppm
精密电阻, 499K,  ± 0.1%, 1/8W, 25ppm, 0805; Manufacturer: SUSUMU; Ordering NO.: RR1220P-4993-B-M-T5; Name: 精密电阻
footprint R0805 (Chip Resistor; Body 2.0 x 1.3 mm (LxW typ))
pins: 1, 2